# EAGLE library part LIS2DW12 (library sensor)
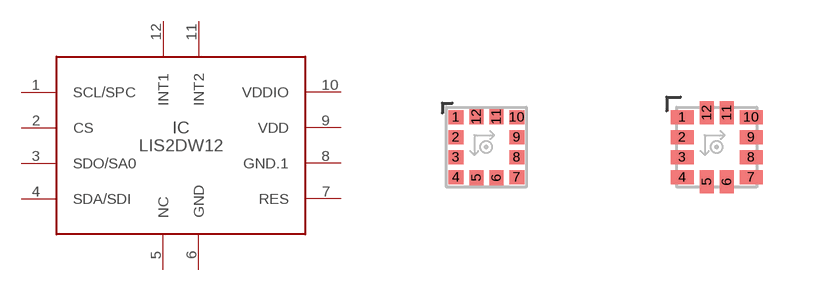
[diagram p1: symbol with the pads of LGA-12_200X200P0.5; footprints LGA-12_200X200P0.5, LGA-12_200X200P0.5_HAND]

Designator prefix IC

## LIS2DW12  [LGA-12_200X200P0.5]
1  SCL/SPC
2  CS  in
3  SDO/SA0
4  SDA/SDI
5  NC  nc
6  GND  pwr
7  RES  pwr
8  GND.1  pwr
9  VDD  pwr
10  VDDIO  pwr
11  INT2  out
12  INT1  out

## LIS2DW12HAND  [LGA-12_200X200P0.5_HAND]
Pads as for LGA-12_200X200P0.5

## Footprint LGA-12_200X200P0.5 (pad centres in mm)
smd 0.375 x 0.35: 1 -0.762,0.75; 2 -0.762,0.25; 3 -0.762,-0.25; 4 -0.762,-0.75; 7 0.762,-0.75; 8 0.762,-0.25; 9 0.762,0.25; 10 0.762,0.75
smd 0.35 x 0.375: 5 -0.25,-0.762; 6 0.25,-0.762; 11 0.25,0.762; 12 -0.25,0.762

## Footprint LGA-12_200X200P0.5_HAND (pad centres in mm)
smd 0.575 x 0.35: 1 -0.863,0.75; 2 -0.863,0.25; 3 -0.863,-0.25; 4 -0.863,-0.75; 7 0.863,-0.75; 8 0.863,-0.25; 9 0.863,0.25; 10 0.863,0.75
smd 0.35 x 0.575: 5 -0.25,-0.863; 6 0.25,-0.863; 11 0.25,0.863; 12 -0.25,0.863